# EAGLE library part HFD23_SPDT (library hfd23)
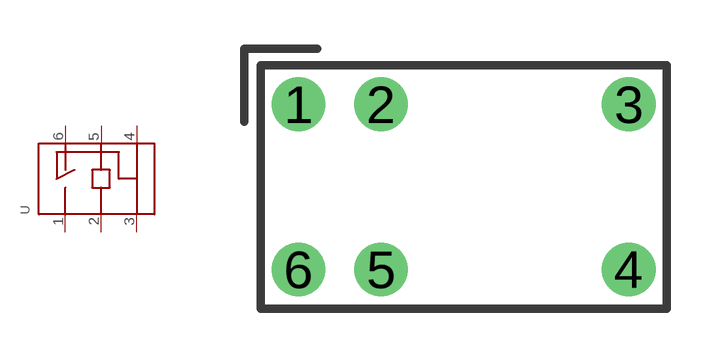
[diagram p0: symbol with the pads of HFD23; footprint HFD23]

Designator prefix -

## HFD23_SPDT  [HFD23]
1  1
2  2
3  3
4  4
5  5
6  6

## Footprint HFD23 (pad centres in mm)
drill 0.9 pad 1.651: 1 -5.08,2.54; 2 -2.54,2.54; 3 5.08,2.54; 4 5.08,-2.54; 5 -2.54,-2.54; 6 -5.08,-2.54